# Altium schematic symbol library TPD4E004.SchLib: 1 symbol
Pins are listed as number, name and electrical type; pins without a type are passive.

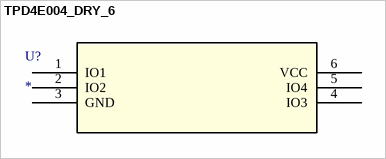
[diagram p0: symbol TPD4E004_DRY_6]

## TPD4E004_DRY_6
designator U?
4-Channel ESD-Protection Array For High-Speed Data Interfaces; Manufacturer_Part_Number: tpd4e004_dry_6; GENERIC_PART_NUMBER: TPD4E004; Vendor: Texas Instruments; PACKAGE_DESIGNATOR: DRY; PIN_COUNT: 6; FAMILY_NAME: ESD Solution; INDUSTRY_STD_PKG_TYPE: SON; Datasheet URL: http://www.ti.com/lit/gpn/TPD4E004; Manufacturer: Texas Instruments; RefDes: RefDes; Type: DEV; Value: Value
footprint DRY6
pins: 1 IO1, 2 IO2, 3 GND (power), 4 IO3, 5 IO4, 6 VCC (power)